# Altium integrated library Breakout_v4.IntLib: 13 symbols
Pins are listed as number, name and electrical type; pins without a type are passive.

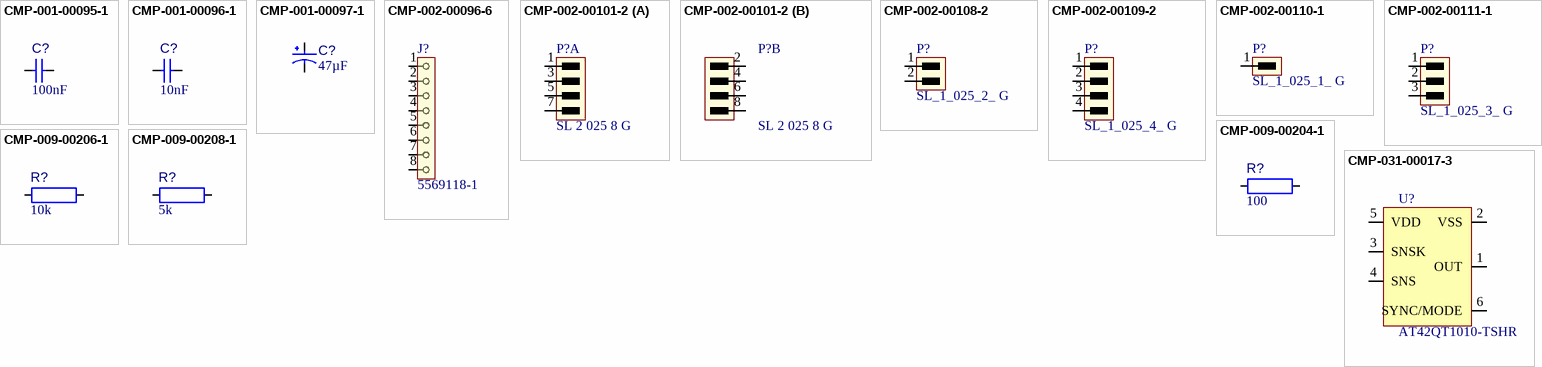
[diagram p0: symbols CMP-001-00095-1 to CMP-031-00017-3]

## CMP-001-00095-1
designator C?, comment value 100nF  (hidden comment: 100nF 0805 X7R 100V)
Kondensator 100nF 0805 X7R 100V 5%; Manufacturer: KEMET; Manufacturer Part Number: C0805C104J1RACAUTO; Capacitor Type: Ceramic; user: IBI-TAE; Case/Package: 0805; Max Operating Temperature: 125°C; Voltage Rating: 100V; Min Operating Temperature: -55°C; Mounting Technology: Surface Mount; Tolerance: 5%; Pins: 2; RoHS Compliant: Yes; Component Type: Capacitors
footprint 0805 (Chip Capacitor, 2-Leads, Body 2,00x1,25mm, IPC Medium Density)
pins: 1, 2

## CMP-001-00096-1
designator C?, comment value 10nF  (hidden comment: 10nF 0805 X7R 50V 5%)
Kondensator 10nF 0805 X7R 50V 5%; Manufacturer: Vishay; Manufacturer Part Number: VJ0805Y103JXAAC; user: IBI-TAE; Capacitor Type: Ceramic; Mounting Technology: Surface Mount; Case/Package: 0805; Max Operating Temperature: 150°C; Min Operating Temperature: -55°C; RoHS Compliant: Yes; Pins: 2; Component Type: Capacitors
footprint Copy of 0805 (Chip Capacitor, 2-Leads, Body 2,00x1,25mm, IPC Medium Density)
pins: 1, 2

## CMP-001-00097-1
designator C?, comment value 47µF  (hidden comment: 870585774003)
Cap, 47Uf, 50V, Alu Elec, Hybrid, Rad Rohs Compliant: Yes; Manufacturer: Würth Elektronik; Manufacturer: Wurth Elektronik; user: IBI-TAE; Capacitor Type: Aluminum Hybrid; ESR: 0,03Ohm; Tolerance: 20%; Min Operating Temperature: -55°C; Max Operating Temperature: 125°C; Mounting Technology: THT; Pins: 2; Voltage Rating: 50V; RoHS Compliant: Yes; Manufacturer Part Number: 870585774003; Component Type: Capacitors
footprint WCAP-HTAH_D8H11.5 (Aluminum Hybrid Polymer Capacitor. body diameter 8mm)
pins: 1, 2

## CMP-002-00096-6
designator J?, comment 5569118-1
Telecom and Datacom Connector, 8 Contact(s), Female, Right Angle, Solder Terminal, Locking, Jack; Manufacturer: TE Connectivity; User: IBI-TAE; Min Operating Temperature: -40°C; Pins: 8; Mounting Technology: Panel,Board; Max Operating Temperature: 85°C; RoHS Compliant: Yes; Case/Package: RJ45; Connector Type: TELECOM AND DATACOM CONNECTOR; Manufacturer Part Number: 5569118-1; Component Type: Connectors
footprint 5569118-1-Footprint-1
pins: 1, 2, 3, 4, 5, 6, 7, 8

## CMP-002-00101-2
designator P?, comment SL 2 025 8 G
Fischer  SL 2 025 8 G, Stiftleiste, 2 Reiheb, 8 Pole, vergoldet; Manufacturer: Fischer Elektronik; Manufacturer Part Number: SL 2 025 72G; Number of Contacts: 8; Max Current Rating: 3A; Connector Type: BOARD CONNECTOR; Gender: male; Number of Rows Loaded: 2; Voltage Rating: 300V; user: IBI-TAE; Pins: 6; Mounting Technology: Board; Terminal Pitch: 2.54mm; RoHS Compliant: Yes; Contact Finish - Mating: GOLD; Contact Finish - Termination: GOLD; Mounting Style: STRAIGHT; Contact Gender: Male; Component Type: Connectors
footprint SL 2 025 2 G-Footprint-1
part A pins: 1, 3, 5, 7
part B pins: 2, 4, 6, 8

## CMP-002-00108-2
designator P?, comment SL_1_025_2_ G
Fischer SL_1_025_2_ G, Stiftleiste, 1 Reiheb, 2 Pole, vergoldet; Manufacturer: Fischer Elektronik; Manufacturer Part Number: SL 1/025/36G; Gender: male; user: IBI-TAE; Voltage Rating: 300V; Connector Type: BOARD CONNECTOR; Number of Contacts: 2; Number of Rows Loaded: 1; Max Current Rating: 3A; RoHS Compliant: Yes; Pins: 2; Contact Finish - Termination: GOLD; Terminal Pitch: 2.54mm; Contact Gender: Male; Mounting Style: STRAIGHT; Contact Finish - Mating: GOLD; Mounting Technology: Board; Component Type: Connectors
footprint SL_1_025_2_ G
pins: 1, 2

## CMP-002-00109-2
designator P?, comment SL_1_025_4_ G
Fischer SL_1_025_4_ G, Stiftleiste, 1 Reiheb, 4 Pole, vergoldet; Manufacturer: Fischer Elektronik; Manufacturer Part Number: SL 1/025/36G; Connector Type: BOARD CONNECTOR; Max Current Rating: 3A; Voltage Rating: 300V; Number of Rows Loaded: 1; Gender: male; Number of Contacts: 4; user: IBI-TAE; Terminal Pitch: 2.54mm; Contact Finish - Mating: GOLD; Mounting Style: STRAIGHT; Mounting Technology: Board; Contact Finish - Termination: GOLD; Contact Gender: Male; Pins: 4; RoHS Compliant: Yes; Component Type: Connectors
footprint SL_1_025_4_ G
pins: 1, 2, 3, 4

## CMP-002-00110-1
designator P?, comment SL_1_025_1_ G
Fischer SL_1_025_1_ G, Stiftleiste, 1 Reiheb, 1 Pole, vergoldet; Manufacturer: Fischer Elektronik; Manufacturer Part Number: SL 1/025/36G; Max Current Rating: 3A; Voltage Rating: 300V; Number of Rows Loaded: 1; user: IBI-TAE; Gender: male; Connector Type: BOARD CONNECTOR; RoHS Compliant: Yes; Mounting Technology: Board; Contact Finish - Termination: GOLD; Pins: 1; Number of Contacts: 1; Contact Gender: Male; Terminal Pitch: 2.54mm; Mounting Style: STRAIGHT; Contact Finish - Mating: GOLD; Component Type: Connectors
footprint Copy of SL_1_025_2_ G
pins: 1

## CMP-002-00111-1
designator P?, comment SL_1_025_3_ G
Fischer SL_1_025_3_ G, Stiftleiste, 1 Reiheb, 3 Pole, vergoldet; Manufacturer: Fischer Elektronik; Manufacturer Part Number: SL 1/025/36G; Gender: male; Voltage Rating: 300V; Connector Type: BOARD CONNECTOR; Number of Contacts: 3; Max Current Rating: 3A; Number of Rows Loaded: 1; user: IBI-TAE; Pins: 3; Terminal Pitch: 2.54mm; RoHS Compliant: Yes; Mounting Style: STRAIGHT; Contact Gender: Male; Contact Finish - Mating: GOLD; Mounting Technology: Board; Contact Finish - Termination: GOLD; Component Type: Connectors
footprint Copy of SL_1_025_4_ G
pins: 1, 2, 3

## CMP-009-00204-1
designator R?, comment value 100  (hidden comment: 100R 1206 200V 0,25W 25ppm/K)
Widerstans SMD 100R 1206 200V 0,25W 25ppm/K; Manufacturer: Yageo Group; Manufacturer Part Number: RT1206FRD07100RL; Power: 250mW; user: IBI-TAE; Tolerance: 1%; Min Operating Temperature: -55°C; Mounting Technology: SMD; Voltage Rating: 200V; Max Operating Temperature: 155°C; Pins: 2; Case/Package: 1206; Component Type: Resistors
footprint 1206 (3216) (Chip Capacitor, 2-Leads, Body 3,25x1,60mm, IPC Medium Density)
pins: 1, 2
1 alternate drawing of the same symbol

## CMP-009-00206-1
designator R?, comment value 10k  (hidden comment: 10K 0805 200V 0,25W 0,5% 50ppm/K)
Widerstand 10K 0805 200V 0,25W 0,5% 50ppm/K; Manufacturer: KOA Speer; Manufacturer Part Number: SG73G2ATTD1002D; Power: 250mW; Tolerance: 0.5%; user: IBI-TAE; Min Operating Temperature: -55°C; Max Operating Temperature: 155°C; Voltage Rating: 200V; RoHS Compliant: Yes; Temperaturkoeffizient: 50 ppm/K; Mounting Technology: Surface Mount; Pins: 2; Case/Package: 0805; Component Type: Resistors
footprint 0805 (2012) (Chip Capacitor, 2-Leads, Body 2,05x1,25mm, IPC Medium Density)
pins: 1, 2
1 alternate drawing of the same symbol

## CMP-009-00208-1
designator R?, comment value 5k  (hidden comment: 5K 0805 100V 0,2W)
Widerstand 5K 0805 100V 0,2W 25ppm/K; Manufacturer: Vishay; Manufacturer Part Number: PNM0805E5001BST5; user: IBI-TAE; Power: 200mW; Tolerance: 0.1%; Min Operating Temperature: -55°C; Voltage Rating: 100V; Mounting Technology: Surface Mount; RoHS Compliant: yes; Case/Package: 0805; Max Operating Temperature: 150°C; Pins: 2; Component Type: Resistors
footprint 0805 (2012) (Chip Capacitor, 2-Leads, Body 2,05x1,25mm, IPC Medium Density)
pins: 1, 2
1 alternate drawing of the same symbol

## CMP-031-00017-3
designator U?, comment AT42QT1010-TSHR
Analog Circuit, 1 Func, PDSO6 ; Touchsensor; digital burst mode charge-transfer sensor ;; Manufacturer: Microchip; Max Supply Voltage: 5.5V; Channels: 1; Min Supply Voltage: 1.8V; User: IBI-TAE; Nominal Supply Voltage: 3V; Time @ Peak Reflow Temperature-Max (s): 40s; Qualification Status: Not Qualified; Package Body Material: Plastic; RoHS Compliant: Yes; Throw Configuration: ANALOG CIRCUIT; Package Shape: Rectangular; Reach SVHC Compliant: Yes; Surface Mount: Yes; Terminal Pitch: 0.95mm; Height - Seated (Max): 1.45mm; Temperature Grade: INDUSTRIAL; Max Operating Temperature: 85°C; Peak Reflow Temperature (Cel): 260°C; Moisture Sensitivity Level: 1; Case/Package: LSSOP; JESD-609 Code: e4; Length: 2.9mm; Min Operating Temperature: -40°C; Terminal Finish: Nickel; JESD-30 Code: R-PDSO-G6; Width: 1.6mm; Package Style: SMALL OUTLINE, LOW PROFILE, SHRINK PITCHMeter; Pins: 6; Terminal Form: Gull Wing; Terminal Position: DUAL; Manufacturer Part Number: AT42QT1010-TSHR; Component Type: Integrated Circuits
footprint 6ST1_M (SOT23, 6-Leads, Body 2.9x1.6mm, Pitch 0.95mm, Lead Span 2.8mm, IPC Low Density)
pins: 1 OUT, 2 VSS (power), 3 SNSK, 4 SNS, 5 VDD (power), 6 SYNC/MODE